# EAGLE library part DWM1001C (library chips)
The DWM1001 module is based on Decawave's DW1000 Ultra Wideband (UWB) transceiver IC, which is an IEEE 802.15.4- 2011 UWB implementation. It integrates UWB and Bluetooth® antenna, all RF circuitry, Nordic Semiconductor nRF52832 and a motion sensor.
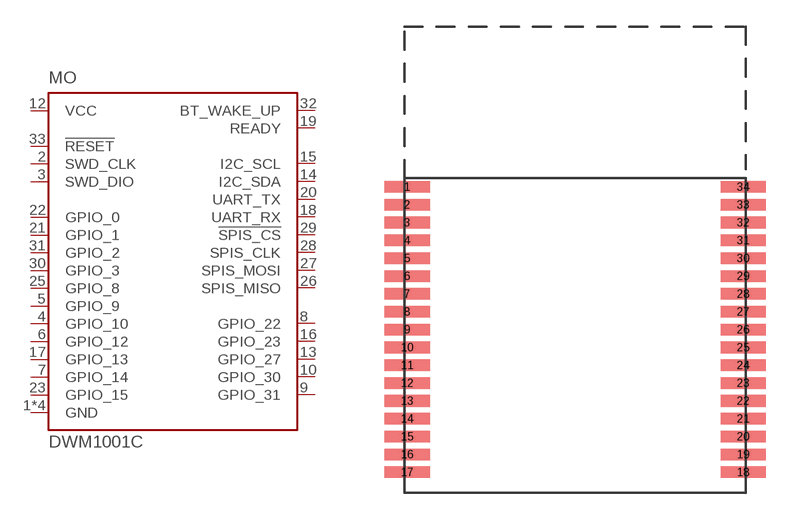
[diagram p98: symbol with the pads of DWM1001C; footprint DWM1001C]

Designator prefix MO

## DWM1001C (DIGIKEY: 1479-1004-1-ND; MPN: DWM1001C)  [DWM1001C]
1  GND
2  SWD_CLK
3  SWD_DIO
4  GPIO_10
5  GPIO_9
6  GPIO_12
7  GPIO_14
8  GPIO_22
9  GPIO_31
10  GPIO_30
11  GND
12  VCC
13  GPIO_27
14  I2C_SDA
15  I2C_SCL
16  GPIO_23
17  GPIO_13
18  UART_RX
19  READY
20  UART_TX
21  GPIO_1
22  GPIO_0
23  GPIO_15
24  GND
25  GPIO_8
26  SPIS_MISO
27  SPIS_MOSI
28  SPIS_CLK
29  !SPIS_CS
30  GPIO_3
31  GPIO_2
32  BT_WAKE_UP
33  !RESET
34  GND

## Footprint DWM1001C (pad centres in mm)
DWM1001C Castillated Footprint
smd 2.54 x 0.65: 1 -9.42,8; 2 -9.42,7; 3 -9.42,6; 4 -9.42,5; 5 -9.42,4; 6 -9.42,3; 7 -9.42,2; 8 -9.42,1; 9 -9.42,0; 10 -9.42,-1; 11 -9.42,-2; 12 -9.42,-3; 13 -9.42,-4; 14 -9.42,-5; 15 -9.42,-6; 16 -9.42,-7; 17 -9.42,-8; 18 9.42,-8; 19 9.42,-7; 20 9.42,-6; 21 9.42,-5; 22 9.42,-4; 23 9.42,-3; 24 9.42,-2; 25 9.42,-1; 26 9.42,0; 27 9.42,1; 28 9.42,2; 29 9.42,3; 30 9.42,4; 31 9.42,5; 32 9.42,6; 33 9.42,7; 34 9.42,8